# Altium schematic symbol library ADC_DAC.SchLib: 2 symbols
Pins are listed as number, name and electrical type; pins without a type are passive.

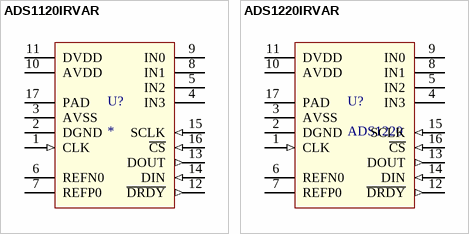
[diagram p0: symbols ADS1120IRVAR to ADS1220IRVAR]

## ADS1120IRVAR
designator U?
16-bit 4 channel SPI ADC with internal temperature sensor, pin-compatible with ADS1220
pins: 1 CLK (in), 2 DGND (power), 3 AVSS (power), 4 IN3, 5 IN2, 6 REFN0, 7 REFP0, 8 IN1, 9 IN0, 10 AVDD (power), 11 DVDD (power), 12 ~{DRDY} (out), 13 DOUT (out), 14 DIN (in), 15 SCLK (in), 16 ~{CS} (in), 17 PAD

## ADS1220IRVAR
designator U?, comment ADS1220
24-bit 4 channel SPI ADC with internal temperature sensor, pin-compatible with ADS1120
pins: 1 CLK (in), 2 DGND (power), 3 AVSS (power), 4 IN3, 5 IN2, 6 REFN0, 7 REFP0, 8 IN1, 9 IN0, 10 AVDD (power), 11 DVDD (power), 12 ~{DRDY} (out), 13 DOUT (out), 14 DIN (in), 15 SCLK (in), 16 ~{CS} (in), 17 PAD